# Altium footprint library 1N4001W-T.PcbLib: 1 footprints
Each footprint in its own frame and in the unit in brackets; x right, y up, seen from the top. Pads: shape width x height; smd on the part's side, far side on the other; paste and mask are expansions set on the pad; w line width, h text height; cw(c..) or ccw(c..) is an arc to the next point about the centre after c.
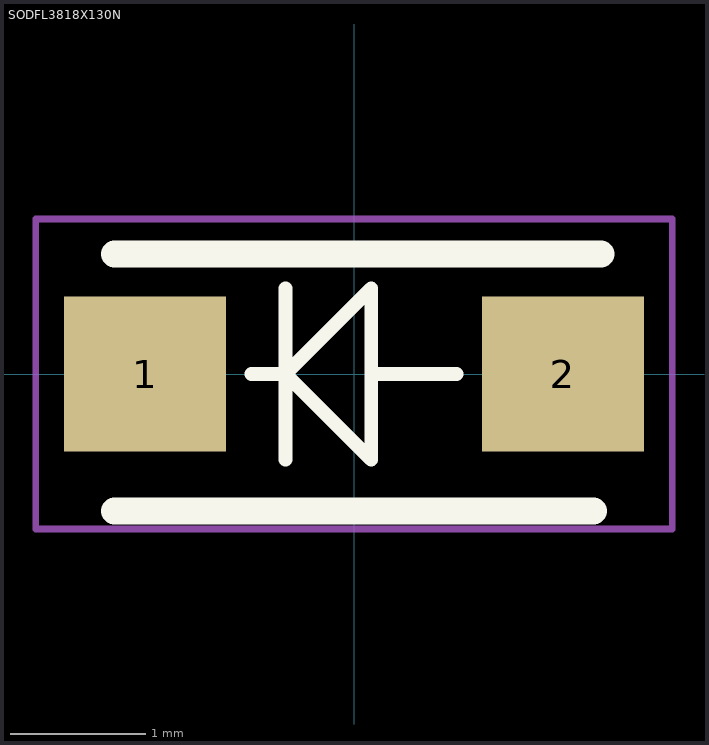
[diagram p0: the footprint, top view; thin cyan lines are the x and y axes]

## SODFL3818X130N [mm]
pads (2):
  rect 1.2x1.15 smd: 1(-1.55,0) 2(1.55,0)
Top Overlay:
  lines w0.102: -0.762,0 -0.508,0 ; -0.508,-0.635 -0.508,0.635 ; 0.127,0 0.762,0 ; -0.508,0 0.127,0.635 0.127,-0.635 -0.508,0
  lines w0.2: -1.778,-1.016 1.778,-1.016 ; -1.778,0.889 1.832,0.889
Mechanical 20:
  lines w0.05: -2.36,-1.15 -2.36,1.15 2.36,1.15 2.36,-1.15 -2.36,-1.15
3D body "1N4001W-T.stp": height 1.3, standoff 0, extent -1.9,-0.9 1.9,0.9